# Altium footprint library PCB1.PcbLib: 27 footprints (part 2 of 2)
Each footprint in its own frame and in the unit in brackets; x right, y up, seen from the top. Pads: shape width x height; smd on the part's side, far side on the other; paste and mask are expansions set on the pad; w line width, h text height; cw(c..) or ccw(c..) is an arc to the next point about the centre after c.
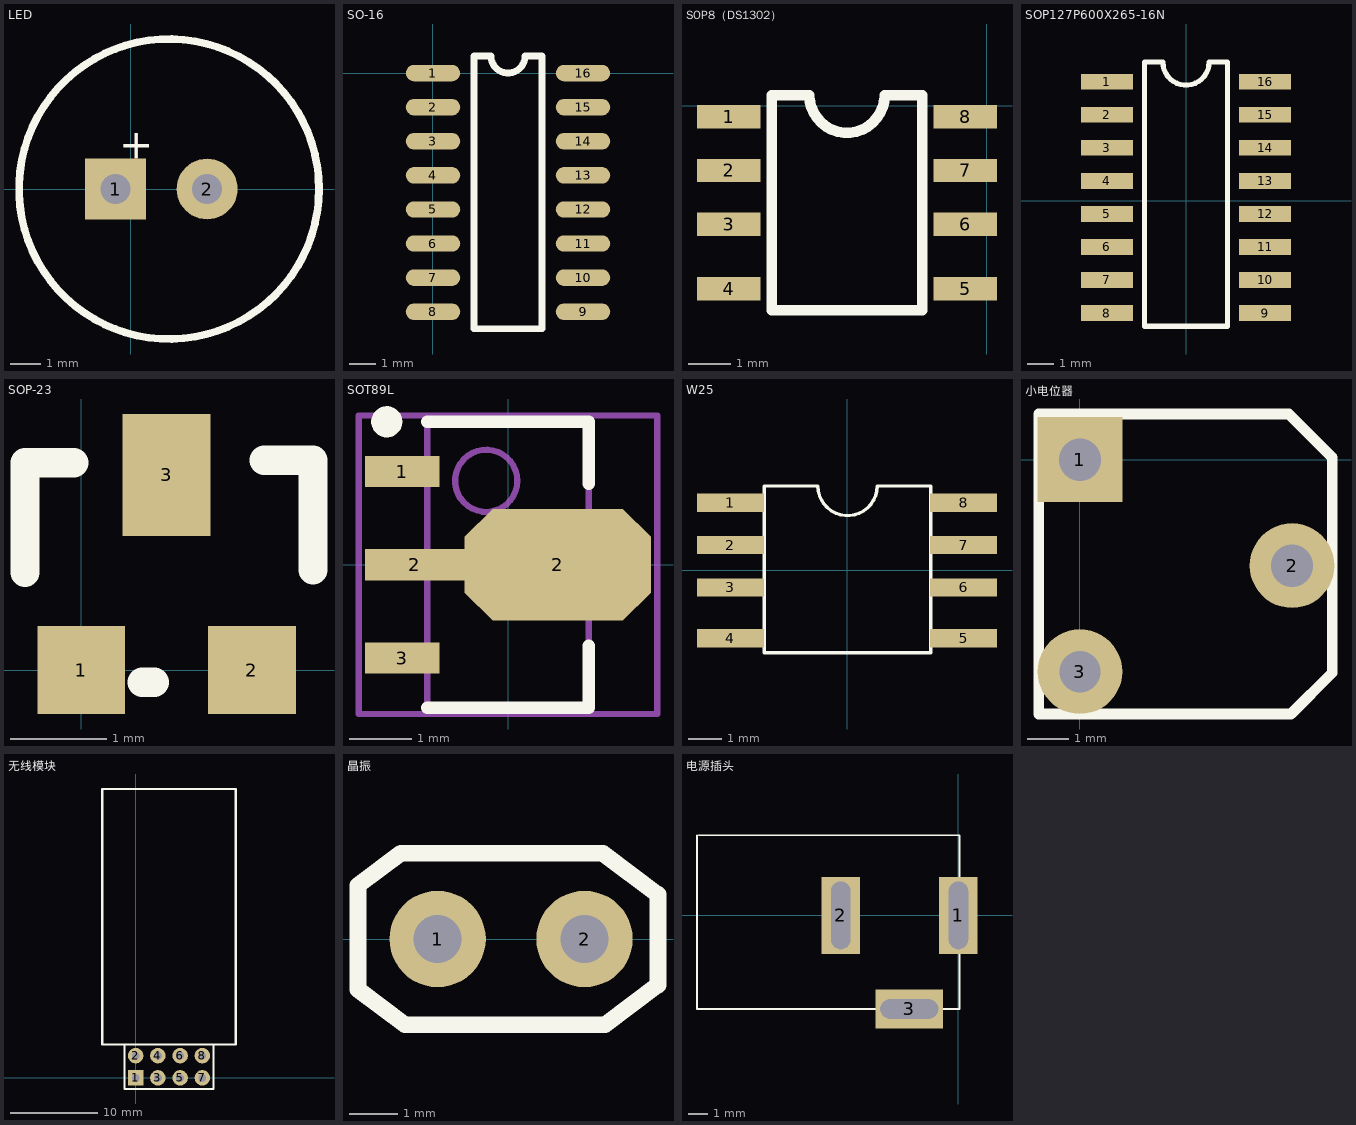
[diagram p1: the footprints below, top view; thin cyan lines are the x and y axes]

## LED [mil]
pads (2):
  rect 80x80 hole 39.37: 1(-20,0)
  round 80 hole 39.37: 2(100,0)
Top Overlay:
  circle w10: c50,0 r196.85
  text "+" at -15,40 h39.37

## SO-16 [mil]
pads (16):
  oval 80x24 smd: 1(0,0) 2(0,-50) 3(0,-100) 4(0,-150) 5(0,-200) 6(0,-250) 7(0,-300) 8(0,-350) 9(220,-350) 10(220,-300) 11(220,-250) 12(220,-200) 13(220,-150) 14(220,-100) 15(220,-50) 16(220,0)
Top Overlay:
  lines w10: 60,-375 60,25 85,25 ccw(c110,25) 135,25 160,25 160,-375 60,-375

## SOP8（DS1302） [mm]
pads (8):
  rect 1.5x0.55 smd: 1(-6.096,-0.254) 2(-6.096,-1.524) 3(-6.096,-2.794) 4(-6.096,-4.318) 5(-0.508,-4.318) 6(-0.508,-2.794) 7(-0.508,-1.524) 8(-0.508,-0.254)
Top Overlay:
  lines w0.254: -5.08,-4.826 -5.08,0.254 -4.191,0.254 ccw(c-3.302,0.254) -2.413,0.254 -1.524,0.254 -1.524,-4.826 -5.08,-4.826

## SOP127P600X265-16N [mm] "SOP, 16-Leads, Body 9.95x3.90mm, Pitch 1.27mm, IPC Medium Density"
height 2.65
pads (16):
  rect 2x0.6 smd: 1(-3.048,4.572) 2(-3.048,3.302) 3(-3.048,2.032) 4(-3.048,0.762) 5(-3.048,-0.508) 6(-3.048,-1.778) 7(-3.048,-3.048) 8(-3.048,-4.318) 9(3.048,-4.318) 10(3.048,-3.048) 11(3.048,-1.778) 12(3.048,-0.508) 13(3.048,0.762) 14(3.048,2.032) 15(3.048,3.302) 16(3.048,4.572)
Top Overlay:
  lines w0.198: -1.6,5.334 -0.889,5.334 ccw(c0,5.334) 0.889,5.334 1.6,5.334
  lines w0.2: -1.6,5.334 -1.6,-4.826 1.6,-4.826 1.6,5.334

## SOP-23 [mil]
pads (3):
  rect 36x36 smd: 1(0,0) 2(70,0)
  rect 36x50 smd: 3(35,80)
Top Overlay:
  lines w12: -23,40 -23,85 -3,85 ; 25,-5 30,-5 ; 75,86 95,86 95,41

## SOT89L [mm] "SOT89, 3-Leads, Body 4.5x2.4 mm, Pitch 1.5mm, Lead Span 4.1mm, IPC High Density"
height 1.61
pads (4):
  rect 1.2x0.5 smd: 1(-1.7,1.5) 3(-1.7,-1.5)
  rect 1.6x0.5 smd: 2(-1.5,0)
  oct 3x1.8 smd: 2(0.8,0)
Top Overlay:
  circle w0.25: c-1.95,2.3 r0.125
  lines w0.2: -1.3,-2.3 1.3,-2.3 1.3,-1.3 ; -1.3,2.3 1.3,2.3 1.3,1.3
Mechanical 13:
  circle w0.1: c-0.35,1.35 r0.5
  lines w0.1: -1.3,-2.3 1.3,-2.3 1.3,2.3 -1.3,2.3 -1.3,-2.3
Mechanical 15:
  lines w0.1: -0.5,0 0.5,0 ; 0,-0.5 0,0.5 ; -2.4,-2.4 2.4,-2.4 2.4,2.4 -2.4,2.4 -2.4,-2.4
3D body: height 1.6, standoff 0, extent -1.3,-2.3 1.3,2.3

## W25 [mm]
pads (8):
  rect 2x0.55 smd: 1(-3.494,2.032) 2(-3.494,0.762) 3(-3.494,-0.508) 4(-3.494,-2.032) 5(3.494,-2.032) 6(3.494,-0.508) 7(3.494,0.762) 8(3.494,2.032)
Top Overlay:
  lines w0.1: -0.894,2.532 -2.478,2.532 -2.478,-2.468 2.5,-2.468 ; -0.872,2.532 ccw(c0.017,2.532) 0.906,2.532 2.506,2.532 2.506,-2.464

## 小电位器 [mil]
pads (3):
  rect 80x80 hole 40: 1(0,0)
  round 80 hole 40: 2(200,-100)
  round 80 hole 39: 3(0,-200)
Top Overlay:
  lines w10: -39,-240 -39,43 197,43 238,2 238,-201 199,-240 100,-240 -39,-240

## 无线模块 [mil]
pads (8):
  rect 70x70 hole 35: 1(0,0)
  round 70 hole 35: 2(0,100) 3(100,0) 4(100,100) 5(200,0) 6(200,100) 7(300,0) 8(300,100)
Top Overlay:
  lines w10: -50,150 -150,150 -150,1300 450,1300 450,150 350,150 ; -50,150 350,150 ; -50,150 -50,-50 350,-50 350,150

## 晶振 [mm]
pads (2):
  round 2 hole 1: 1(2.032,0) 2(5.08,0)
Top Overlay:
  lines w0.35: 0.381,-1.048 1.355,-1.778 5.503,-1.778 6.604,-0.953 6.604,0.921 5.461,1.778 1.27,1.778 0.381,1.111 0.381,-1.048

## 电源插头 [mm]
pads (3):
  rect 2x4 hole 1 slot 3.5 at 90 deg: 1(0,0) 2(-6.096,0)
  rect 3.5x2 hole 1 slot 3 at 0 deg: 3(-2.545,-4.85)
Top Overlay:
  lines w0.1: -13.545,4.15 -13.545,-4.85 -2.545,-4.85 ; -4.645,-4.85 0.055,-4.85 0.055,4.15 ; -13.445,4.15 -13.445,4.15 ; -13.445,4.15 -2.545,4.15 0.055,4.15 ; 0.055,4.15 0.055,4.15